# EAGLE library part ACS711 (library my_ic)
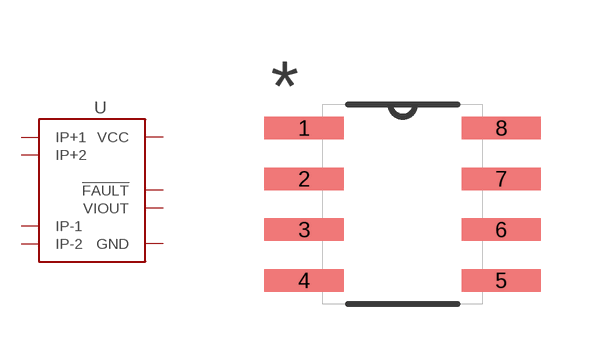
[diagram p13: symbol with the pads of SOIC-8; footprint SOIC-8]

Designator prefix -

## ACS711  [SOIC-8]
1  IP+1
2  IP+2
3  IP-1
4  IP-2
5  GND
6  !FAULT
7  VIOUT
8  VCC

## Footprint SOIC-8 (pad centres in mm)
smd 1.981 x 0.559: 1 -2.464,1.905; 2 -2.464,0.635; 3 -2.464,-0.635; 4 -2.464,-1.905; 5 2.464,-1.905; 6 2.464,-0.635; 7 2.464,0.635; 8 2.464,1.905